# Altium schematic symbol library KGM21NR71H104KT.SchLib: 2 symbols
Pins are listed as number, name and electrical type; pins without a type are passive.

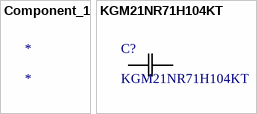
[diagram p0: symbols Component_1 to KGM21NR71H104KT]

## Component_1
designator *

## KGM21NR71H104KT
designator C?
No Description Available; Manufacturer_Name: KYOCERA AVX; Type: Ceramic Capacitors; Copyright: Copyright (C) 2025 Ultra Librarian. All rights reserved.; Manufacturer_Part_Number: KGM21NR71H104KT
footprint CAP_KGM21_KAV
pins: 1, 2